# EAGLE library part V2_BOARD_80PIN (library Artemis v2 board)
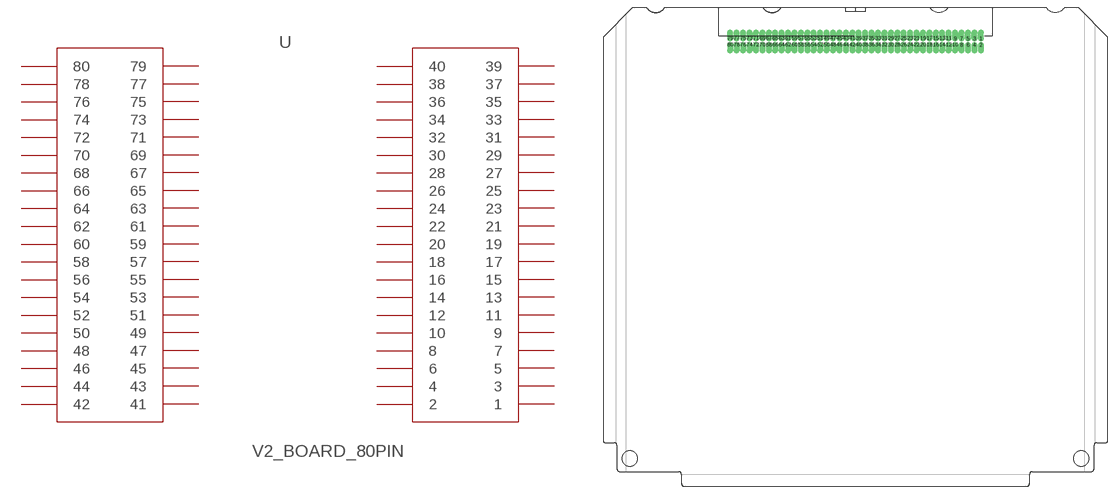
[diagram p0: symbol with the pads of BOARD_80PIN; footprint BOARD_80PIN]

Designator prefix -

## V2_BOARD_80PIN  [BOARD_80PIN]
1  1
2  2
3  3
4  4
5  5
6  6
7  7
8  8
9  9
10  10
11  11
12  12
13  13
14  14
15  15
16  16
17  17
18  18
19  19
20  20
21  21
22  22
23  23
24  24
25  25
26  26
27  27
28  28
29  29
30  30
31  31
32  32
33  33
34  34
35  35
36  36
37  37
38  38
39  39
40  40
41  41
42  42
43  43
44  44
45  45
46  46
47  47
48  48
49  49
50  50
51  51
52  52
53  53
54  54
55  55
56  56
57  57
58  58
59  59
60  60
61  61
62  62
63  63
64  64
65  65
66  66
67  67
68  68
69  69
70  70
71  71
72  72
73  73
74  74
75  75
76  76
77  77
78  78
79  79
80  80

## Footprint BOARD_80PIN (pad centres in mm)
drill 0.635 pad 0.965 offset: 1 74.665,88.535; 2 74.665,87.265; 3 73.395,88.535; 4 73.395,87.265; 5 72.125,88.535; 6 72.125,87.265; 7 70.855,88.535; 8 70.855,87.265; 9 69.585,88.535; 10 69.585,87.265; 11 68.315,88.535; 12 68.315,87.265; 13 67.045,88.535; 14 67.045,87.265; 15 65.775,88.535; 16 65.775,87.265; 17 64.505,88.535; 18 64.505,87.265; 19 63.235,88.535; 20 63.235,87.265; 21 61.965,88.535; 22 61.965,87.265; 23 60.695,88.535; 24 60.695,87.265; 25 59.425,88.535; 26 59.425,87.265; 27 58.155,88.535; 28 58.155,87.265; 29 56.885,88.535; 30 56.885,87.265; 31 55.615,88.535; 32 55.615,87.265; 33 54.345,88.535; 34 54.345,87.265; 35 53.075,88.535; 36 53.075,87.265; 37 51.805,88.535; 38 51.805,87.265; 39 50.535,88.535; 40 50.535,87.265; 41 49.265,88.535; 42 49.265,87.265; 43 47.995,88.535; 44 47.995,87.265; 45 46.725,88.535; 46 46.725,87.265; 47 45.455,88.535; 48 45.455,87.265; 49 44.185,88.535; 50 44.185,87.265; 51 42.915,88.535; 52 42.915,87.265; 53 41.645,88.535; 54 41.645,87.265; 55 40.375,88.535; 56 40.375,87.265; 57 39.105,88.535; 58 39.105,87.265; 59 37.835,88.535; 60 37.835,87.265; 61 36.565,88.535; 62 36.565,87.265; 63 35.295,88.535; 64 35.295,87.265; 65 34.025,88.535; 66 34.025,87.265; 67 32.755,88.535; 68 32.755,87.265; 69 31.485,88.535; 70 31.485,87.265; 71 30.215,88.535; 72 30.215,87.265; 73 28.945,88.535; 74 28.945,87.265; 75 27.675,88.535; 76 27.675,87.265; 77 26.405,88.535; 78 26.405,87.265; 79 25.135,88.535; 80 25.135,87.265
hole 3 at 5.3,5.5
hole 3 at 94.5,5.5